# EAGLE library part 93LC56C-I/SN (library launchpad)
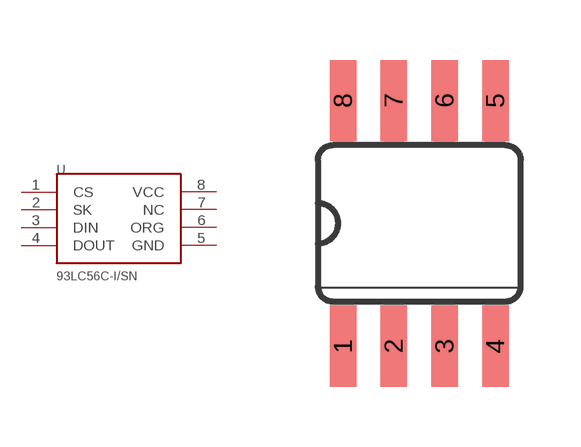
[diagram p0: symbol with the pads of SO8; footprint SO8]

Designator prefix U

## 93LC56C-I/SN  [SO8]
1  CS
2  SK
3  DIN
4  DOUT
5  GND
6  ORG
7  NC
8  VCC

## Footprint SO8 (pad centres in mm)
smd 0.66 x 2.032: 1 0.635,-5.613; 2 1.905,-5.613; 3 3.175,-5.613; 4 4.445,-5.613; 5 4.445,0.533; 6 3.175,0.533; 7 1.905,0.533; 8 0.635,0.533